# EAGLE library part HEADER-2X18 (library Modulo)
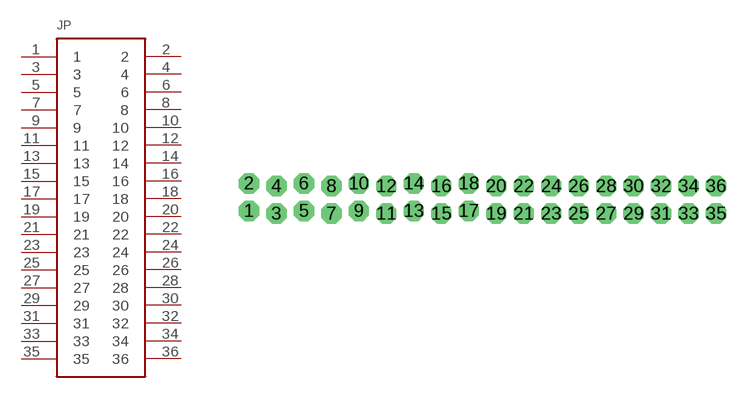
[diagram p17: symbol with the pads of 2X18-LOCK; footprint 2X18-LOCK]

Designator prefix JP

## HEADER-2X18 (PARTNUM: PPTC182LFBN-RC)  [2X18-LOCK]
1  1
2  2
3  3
4  4
5  5
6  6
7  7
8  8
9  9
10  10
11  11
12  12
13  13
14  14
15  15
16  16
17  17
18  18
19  19
20  20
21  21
22  22
23  23
24  24
25  25
26  26
27  27
28  28
29  29
30  30
31  31
32  32
33  33
34  34
35  35
36  36

## Footprint 2X18-LOCK (pad centres in mm)
drill 1.016 pad 1.88 octagon: 1 -21.59,-1.143; 2 -21.59,1.397; 3 -19.05,-1.397; 4 -19.05,1.143; 5 -16.51,-1.143; 6 -16.51,1.397; 7 -13.97,-1.397; 8 -13.97,1.143; 9 -11.43,-1.143; 10 -11.43,1.397; 11 -8.89,-1.397; 12 -8.89,1.143; 13 -6.35,-1.143; 14 -6.35,1.397; 15 -3.81,-1.397; 16 -3.81,1.143; 17 -1.27,-1.143; 18 -1.27,1.397; 19 1.27,-1.397; 20 1.27,1.143; 21 3.81,-1.397; 22 3.81,1.143; 23 6.35,-1.397; 24 6.35,1.143; 25 8.89,-1.397; 26 8.89,1.143; 27 11.43,-1.397; 28 11.43,1.143; 29 13.97,-1.397; 30 13.97,1.143; 31 16.51,-1.397; 32 16.51,1.143; 33 19.05,-1.397; 34 19.05,1.143; 35 21.59,-1.397; 36 21.59,1.143